# Altium integrated library ultravolt.IntLib: 2 symbols
Pins are listed as number, name and electrical type; pins without a type are passive.

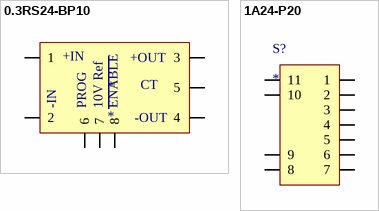
[diagram p0: symbols 0.3RS24-BP10 to 1A24-P20]

## 0.3RS24-BP10
designator *
footprint 0.3RS24-BP10 (28 to 600 V)
pins: 1, 2, 3, 4, 5, 6, 7, 8
text: +IN; +OUT; CT; -IN; PROG; 10V Ref; ENABLE; -OUT

## 1A24-P20
designator S?
300 V Power Supply
footprint 1A24-P20 (300 V Power Supply)
pins: 1, 2, 3, 4, 5, 6, 7, 8, 9, 10, 11